# EAGLE library part LG3D20TR (library LTC6803)
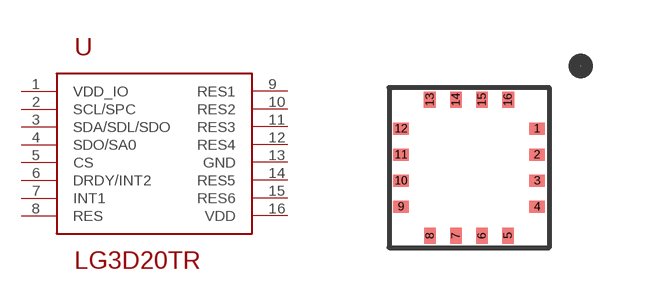
[diagram p2: symbol with the pads of L3GD20TR; footprint L3GD20TR]

Designator prefix -

## LG3D20TR  [L3GD20TR]
1  VDD_IO
2  SCL/SPC
3  SDA/SDL/SDO
4  SDO/SA0
5  CS
6  DRDY/INT2
7  INT1
8  RES
9  RES1
10  RES2
11  RES3
12  RES4
13  GND
14  RES5
15  RES6
16  VDD

## Footprint L3GD20TR (pad centres in mm)
smd 0.399 x 0.3: 1 3.7,2.975; 2 3.7,2.325; 3 3.7,1.675; 4 3.7,1.025; 9 0.3,1.025; 10 0.3,1.675; 11 0.3,2.325; 12 0.3,2.975
smd 0.3 x 0.399: 5 2.975,0.3; 6 2.325,0.3; 7 1.675,0.3; 8 1.025,0.3; 13 1.025,3.7; 14 1.675,3.7; 15 2.325,3.7; 16 2.975,3.7